# EAGLE library part MC34063 (library QuantumOptics)
MC34063 SMPS, TI & ST Micro, simple 8-pin integrated switch buck-boost-invert http://www.st.com/stonline/books/pdf/docs/5257.pdf
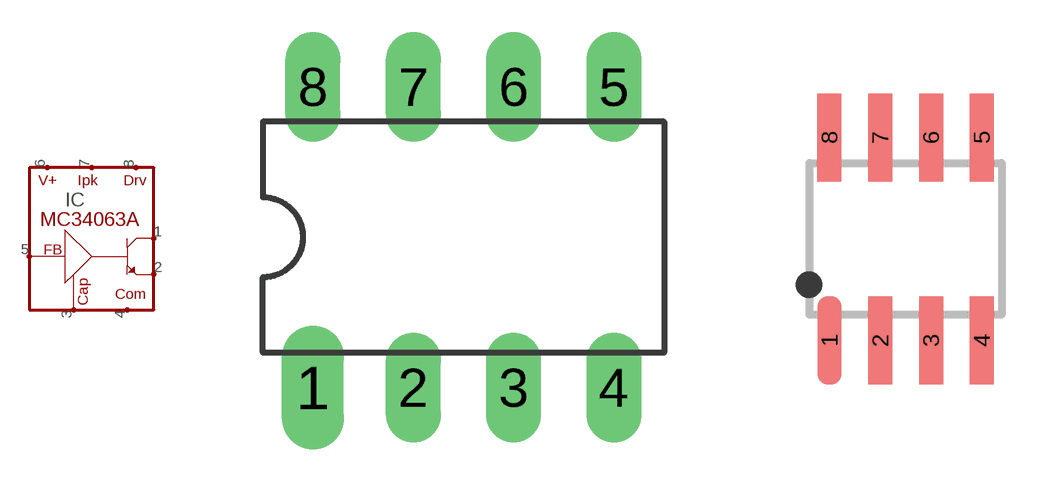
[diagram p49: symbol with the pads of DIL08; footprints DIL08, SOIC-8]

Designator prefix IC

## MC34063-DIP8  [DIL08]
1  SWCOL
2  SWEM
3  CAP
4  COM
5  FB
6  VDD
7  ISENSE
8  DRCOL

## MC34063-SIOC8  [SOIC-8]
Pads as for DIL08

## Footprint DIL08 (pad centres in mm)
Dual In Line Package
drill 0.889 pad 1.575 long: 1 -3.81,-3.81
drill 0.889 long: 2 -1.27,-3.81; 3 1.27,-3.81; 4 3.81,-3.81; 5 3.81,3.81; 6 1.27,3.81; 7 -1.27,3.81; 8 -3.81,3.81

## Footprint SOIC-8 (pad centres in mm)
SOIC-8 (a.k.a. SO-8), pads on 0.050" x 0.200" c-c spacing.
smd 0.6 x 2.2: 1 -1.27,-2.54; 2 0,-2.54; 3 1.27,-2.54; 4 2.54,-2.54; 5 2.54,2.54; 6 1.27,2.54; 7 0,2.54; 8 -1.27,2.54